# Altium footprint library RKJXV1224005.PcbLib: 1 footprints
Each footprint in its own frame and in the unit in brackets; x right, y up, seen from the top. Pads: shape width x height; smd on the part's side, far side on the other; paste and mask are expansions set on the pad; w line width, h text height; cw(c..) or ccw(c..) is an arc to the next point about the centre after c.
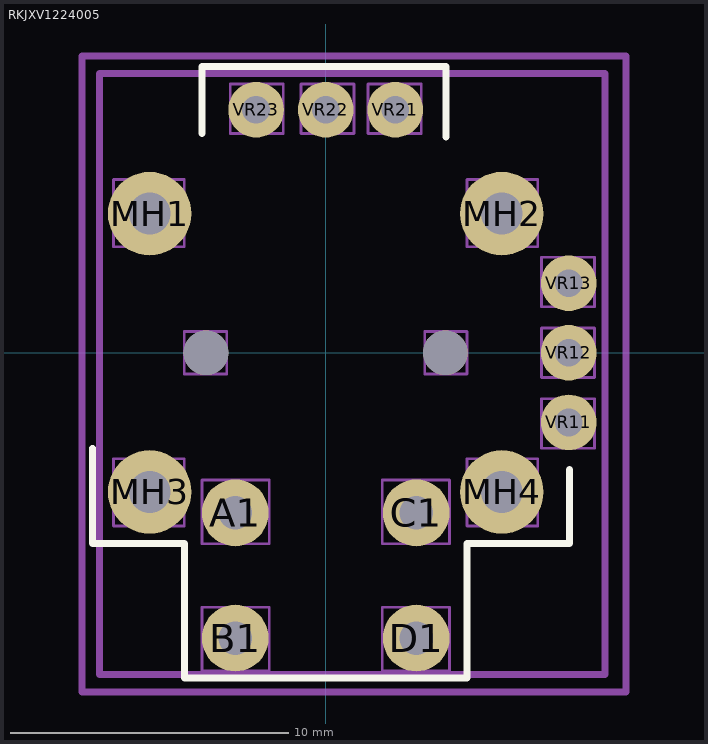
[diagram p0: the footprint, top view; thin cyan lines are the x and y axes]

## RKJXV1224005 [mm]
pads (16):
  round 2.4 hole 1.2: A1(-3.25,-5.75) B1(-3.25,-10.25) C1(3.25,-5.75) D1(3.25,-10.25)
  round 3 hole 1.5: MH1(-6.325,5) MH2(6.325,5) MH3(-6.325,-5) MH4(6.325,-5)
  round 2 hole 1: VR11(8.73,-2.5) VR12(8.73,0) VR13(8.73,2.5) VR21(2.5,8.73) VR22(0,8.73) VR23(-2.5,8.73)
  round 1.6 hole 1.6 unplated: ""(-4.3,0) ""(4.3,0)
Top Overlay:
  lines w0.25: -8.382,-3.429 -8.382,-6.858 -5.08,-6.858 -5.08,-11.684 5.08,-11.684 5.08,-6.858 8.763,-6.858 8.763,-4.191 ; -4.445,7.874 -4.445,10.287 4.318,10.287 4.318,8.001 4.318,7.747
Mechanical 3:
  lines w0.25: -8.128,-11.557 -8.128,10.033 10.033,10.033 10.033,-11.557 -8.128,-11.557
Mechanical 5:
  lines w0.1: -7.62,-6.223 -5.08,-6.223 -5.08,-3.81 -7.62,-3.81 -7.62,-6.223 ; -7.62,3.81 -7.62,6.223 -5.08,6.223 -5.08,3.81 -7.62,3.81 ; -5.08,-0.762 -3.556,-0.762 -3.556,0.762 -5.08,0.762 -5.08,-0.762 ; -4.445,-11.43 -2.032,-11.43 -2.032,-9.144 -4.445,-9.144 -4.445,-11.43 ; -4.445,-6.858 -2.032,-6.858 -2.032,-4.572 -4.445,-4.572 -4.445,-6.858 ; -3.429,7.874 -1.524,7.874 -1.524,9.652 -3.429,9.652 -3.429,7.874 ; -0.889,7.874 1.016,7.874 1.016,9.652 -0.889,9.652 -0.889,7.874 ; 1.524,7.874 3.429,7.874 3.429,9.652 1.524,9.652 1.524,7.874 ; 2.032,-11.43 4.445,-11.43 4.445,-9.144 2.032,-9.144 2.032,-11.43 ; 2.032,-6.858 4.445,-6.858 4.445,-4.572 2.032,-4.572 2.032,-6.858 ; 3.556,-0.762 3.556,0.762 5.08,0.762 5.08,-0.762 3.556,-0.762 ; 5.08,-6.223 7.62,-6.223 7.62,-3.81 5.08,-3.81 5.08,-6.223 ; 5.08,3.81 7.62,3.81 7.62,6.223 5.08,6.223 5.08,3.81 ; 7.747,-3.429 7.747,-1.651 9.652,-1.651 9.652,-3.429 7.747,-3.429 ; 7.747,-0.889 7.747,0.889 9.652,0.889 9.652,-0.889 7.747,-0.889 ; 7.747,1.651 7.747,3.429 9.652,3.429 9.652,1.651 7.747,1.651
Mechanical 7:
  lines w0.25: -8.763,-12.192 -8.763,10.668 10.795,10.668 10.795,-12.192 -8.763,-12.192
Mechanical 9:
  text "'.Designator'" at -5.817,2.142 h1.02
3D body "RKJXV122400R.STEP": height 18.95, standoff -2.9, extent -8.112,-11.6 10.075,10.075
3D body: height 17.4, standoff 0, extent -8.763,-12.192 10.795,10.668